# Altium integrated library TI Converter CODEC Voice-Band.IntLib: 99 symbols (part 1 of 7)
Pins are listed as number, name and electrical type; pins without a type are passive.

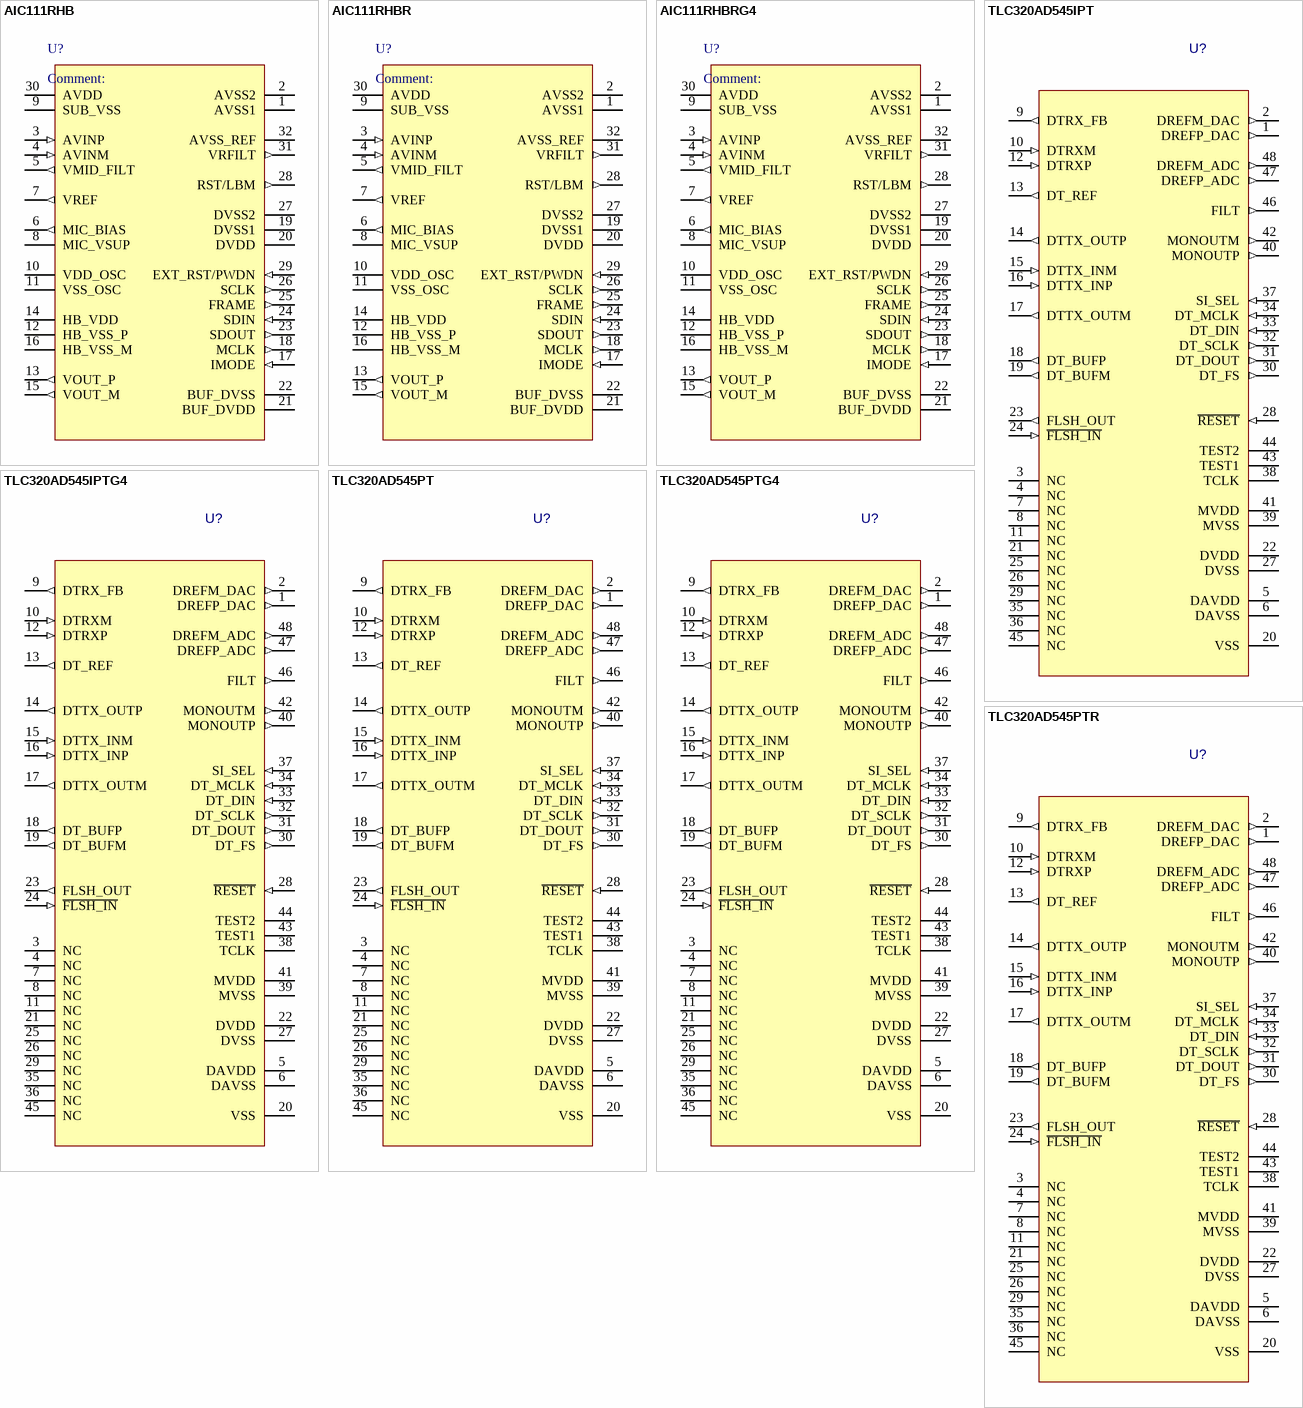
[diagram p0: symbols AIC111RHB to TLC320AD545PTR]

## AIC111RHB
designator U?
1.3V microPower DSP/uC Voice Band Audio CODEC, 32-pin QFN; Published: 16-Dec-2005; LatestRevisionDate: 13-Apr-2006; LatestRevisionNote: IPC-7351 Footprint Added.; DatasheetVersion: 18-Oct-2005; PackageVersion: 2004; PackageReference: RHB32; Publisher: Altium Limited; PackageDescription: 32-Pin Plastic Quad Flat No-Lead 0.5 mm Pitch; Code_JEDEC: MO-022; ComponentLink1Description: Manufacturer Link; ComponentLink1URL: http://www.ti.com/; ComponentLink2Description: Datasheet; ComponentLink2URL: http://focus.ti.com/lit/ds/symlink/aic111.pdf
footprint RHB32_N (QFN, 32-Leads, Body 5x5mm, Pitch 0.5mm, IPC Medium Density)
footprint RHB32_L (QFN, 32-Leads, Body 5x5mm, Pitch 0.5mm, IPC High Density)
footprint RHB32_M (QFN, 32-Leads, Body 5x5mm, Pitch 0.5mm, IPC Low Density)
pins: 1 AVSS1 (power) "Ground return for ADC analog circuits", 2 AVSS2 (power) "Ground return for PGAC and MIC power analog circuits", 3 AVINP (in) "Noninverting differential analog input coupled through an external 1uF capacitor to external microphone output", 4 AVINM (in) "Inverting differential analog signal input coupled through an external 1uF capacitor to ground", 5 VMID_FILT (out) "Midsupply ac ground reference filter pin bypassed by a 1uF capacitor connected to ground", 6 MIC_BIAS (out) "Source connection of external microphone source follower preamp. (Provides 29.1 KOhm to AVSS2)", 7 VREF (out) "Bandgap reference output bypassed by external 1uF VREF filter capacitor", 8 MIC_VSUP (power) "Supply voltage for external microphone source follower preamp bypassed with an external 0.1uF capacitor", 9 SUB_VSS (power) "Isolated substrate VSS for analog circuits", 10 VDD_OSC (power) "Power pin for internal oscillator", 11 VSS_OSC (power) "Ground return for internal oscillator", 12 HB_VSS_P (power) "Ground return for noninverting stack of H-bridge amplifier", 13 VOUT_P (out) "Noninverting H-bridge output voltage", 14 HB_VDD (power) "Power pin for H-bridge amplifier", 15 VOUT_M (out) "Inverting H-bridge output voltage", 16 HB_VSS_M (power) "Ground return for inverting stack of H-bridge amplifier", 17 IMODE (in) "Digital interface format selection pin", 18 MCLK (out) "5MHz output clock for external DSP/uC", 19 DVSS1 (power) "Ground return for digital circuits", 20 DVDD (power) "Power pin for digital circuits", 21 BUF_DVDD (power) "Power pin for interface digital I/O circuits", 22 BUF_DVSS (power) "Ground return for interface digital I/O circuits", 23 SDOUT (out) "Digital interface serial data output pin", 24 SDIN (in) "Digital interface serial data input pin", 25 FRAME (out) "Digital interface serial data framer", 26 SCLK (out) "Digital interface serial shift clock", 27 DVSS2 (power) "Ground return for digital circuits", 28 RST/LBM (out) "Provides external reset and low battery monitor", 29 EXT_RST/PWDN (in) "Powers down all analog blocks and holds digital outputs low until internal system is up", 30 AVDD (power) "VDD power pin for analog circuits", 31 VRFILT (out) "Positive ADC reference pin bypassed with 1uF capacitor to AVSS_REF", 32 AVSS_REF (power) "Ground for ADC voltage reference"

## AIC111RHBR
designator U?
1.3V microPower DSP/uC Voice Band Audio CODEC, 32-pin QFN; Published: 16-Dec-2005; LatestRevisionDate: 13-Apr-2006; LatestRevisionNote: IPC-7351 Footprint Added.; DatasheetVersion: 18-Oct-2005; PackageVersion: 2004; PackageReference: RHB32; Publisher: Altium Limited; PackageDescription: 32-Pin Plastic Quad Flat No-Lead 0.5 mm Pitch; Code_JEDEC: MO-022; ComponentLink1Description: Manufacturer Link; ComponentLink1URL: http://www.ti.com/; ComponentLink2Description: Datasheet; ComponentLink2URL: http://focus.ti.com/lit/ds/symlink/aic111.pdf
footprint RHB32_N (QFN, 32-Leads, Body 5x5mm, Pitch 0.5mm, IPC Medium Density)
footprint RHB32_L (QFN, 32-Leads, Body 5x5mm, Pitch 0.5mm, IPC High Density)
footprint RHB32_M (QFN, 32-Leads, Body 5x5mm, Pitch 0.5mm, IPC Low Density)
pins: 1 AVSS1 (power) "Ground return for ADC analog circuits", 2 AVSS2 (power) "Ground return for PGAC and MIC power analog circuits", 3 AVINP (in) "Noninverting differential analog input coupled through an external 1uF capacitor to external microphone output", 4 AVINM (in) "Inverting differential analog signal input coupled through an external 1uF capacitor to ground", 5 VMID_FILT (out) "Midsupply ac ground reference filter pin bypassed by a 1uF capacitor connected to ground", 6 MIC_BIAS (out) "Source connection of external microphone source follower preamp. (Provides 29.1 KOhm to AVSS2)", 7 VREF (out) "Bandgap reference output bypassed by external 1uF VREF filter capacitor", 8 MIC_VSUP (power) "Supply voltage for external microphone source follower preamp bypassed with an external 0.1uF capacitor", 9 SUB_VSS (power) "Isolated substrate VSS for analog circuits", 10 VDD_OSC (power) "Power pin for internal oscillator", 11 VSS_OSC (power) "Ground return for internal oscillator", 12 HB_VSS_P (power) "Ground return for noninverting stack of H-bridge amplifier", 13 VOUT_P (out) "Noninverting H-bridge output voltage", 14 HB_VDD (power) "Power pin for H-bridge amplifier", 15 VOUT_M (out) "Inverting H-bridge output voltage", 16 HB_VSS_M (power) "Ground return for inverting stack of H-bridge amplifier", 17 IMODE (in) "Digital interface format selection pin", 18 MCLK (out) "5MHz output clock for external DSP/uC", 19 DVSS1 (power) "Ground return for digital circuits", 20 DVDD (power) "Power pin for digital circuits", 21 BUF_DVDD (power) "Power pin for interface digital I/O circuits", 22 BUF_DVSS (power) "Ground return for interface digital I/O circuits", 23 SDOUT (out) "Digital interface serial data output pin", 24 SDIN (in) "Digital interface serial data input pin", 25 FRAME (out) "Digital interface serial data framer", 26 SCLK (out) "Digital interface serial shift clock", 27 DVSS2 (power) "Ground return for digital circuits", 28 RST/LBM (out) "Provides external reset and low battery monitor", 29 EXT_RST/PWDN (in) "Powers down all analog blocks and holds digital outputs low until internal system is up", 30 AVDD (power) "VDD power pin for analog circuits", 31 VRFILT (out) "Positive ADC reference pin bypassed with 1uF capacitor to AVSS_REF", 32 AVSS_REF (power) "Ground for ADC voltage reference"

## AIC111RHBRG4
designator U?
1.3V microPower DSP/uC Voice Band Audio CODEC, 32-pin QFN; Published: 16-Dec-2005; LatestRevisionDate: 13-Apr-2006; LatestRevisionNote: IPC-7351 Footprint Added.; DatasheetVersion: 18-Oct-2005; PackageVersion: 2004; PackageReference: RHB32; Publisher: Altium Limited; PackageDescription: 32-Pin Plastic Quad Flat No-Lead 0.5 mm Pitch; Code_JEDEC: MO-022; ComponentLink1Description: Manufacturer Link; ComponentLink1URL: http://www.ti.com/; ComponentLink2Description: Datasheet; ComponentLink2URL: http://focus.ti.com/lit/ds/symlink/aic111.pdf
footprint RHB32_N (QFN, 32-Leads, Body 5x5mm, Pitch 0.5mm, IPC Medium Density)
footprint RHB32_L (QFN, 32-Leads, Body 5x5mm, Pitch 0.5mm, IPC High Density)
footprint RHB32_M (QFN, 32-Leads, Body 5x5mm, Pitch 0.5mm, IPC Low Density)
pins: 1 AVSS1 (power) "Ground return for ADC analog circuits", 2 AVSS2 (power) "Ground return for PGAC and MIC power analog circuits", 3 AVINP (in) "Noninverting differential analog input coupled through an external 1uF capacitor to external microphone output", 4 AVINM (in) "Inverting differential analog signal input coupled through an external 1uF capacitor to ground", 5 VMID_FILT (out) "Midsupply ac ground reference filter pin bypassed by a 1uF capacitor connected to ground", 6 MIC_BIAS (out) "Source connection of external microphone source follower preamp. (Provides 29.1 KOhm to AVSS2)", 7 VREF (out) "Bandgap reference output bypassed by external 1uF VREF filter capacitor", 8 MIC_VSUP (power) "Supply voltage for external microphone source follower preamp bypassed with an external 0.1uF capacitor", 9 SUB_VSS (power) "Isolated substrate VSS for analog circuits", 10 VDD_OSC (power) "Power pin for internal oscillator", 11 VSS_OSC (power) "Ground return for internal oscillator", 12 HB_VSS_P (power) "Ground return for noninverting stack of H-bridge amplifier", 13 VOUT_P (out) "Noninverting H-bridge output voltage", 14 HB_VDD (power) "Power pin for H-bridge amplifier", 15 VOUT_M (out) "Inverting H-bridge output voltage", 16 HB_VSS_M (power) "Ground return for inverting stack of H-bridge amplifier", 17 IMODE (in) "Digital interface format selection pin", 18 MCLK (out) "5MHz output clock for external DSP/uC", 19 DVSS1 (power) "Ground return for digital circuits", 20 DVDD (power) "Power pin for digital circuits", 21 BUF_DVDD (power) "Power pin for interface digital I/O circuits", 22 BUF_DVSS (power) "Ground return for interface digital I/O circuits", 23 SDOUT (out) "Digital interface serial data output pin", 24 SDIN (in) "Digital interface serial data input pin", 25 FRAME (out) "Digital interface serial data framer", 26 SCLK (out) "Digital interface serial shift clock", 27 DVSS2 (power) "Ground return for digital circuits", 28 RST/LBM (out) "Provides external reset and low battery monitor", 29 EXT_RST/PWDN (in) "Powers down all analog blocks and holds digital outputs low until internal system is up", 30 AVDD (power) "VDD power pin for analog circuits", 31 VRFILT (out) "Positive ADC reference pin bypassed with 1uF capacitor to AVSS_REF", 32 AVSS_REF (power) "Ground for ADC voltage reference"

## TLC320AD545IPT
designator U?
Single Channel CODEC with Hybrid Op Amps & Speaker Driver, 48-Pin LQFP, Industrial Grade; Published: 16-Dec-2005; LatestRevisionDate: 13-Apr-2006; LatestRevisionNote: IPC-7351 Footprint Added.; DatasheetVersion: 04-Nov-2005; PackageVersion: May-1997; PackageReference: PT48; Publisher: Altium Limited; PackageDescription: 48-Pin Thin Quad Flat Pack 0.5 mm Pitch; ComponentLink1Description: Manufacturer Link; ComponentLink1URL: http://www.ti.com/; ComponentLink2Description: Datasheet; ComponentLink2URL: http://focus.ti.com/lit/ds/symlink/twl1103t-q1.pdf
footprint PT48_N (Thin QFP, 48-Leads, Body 7x7mm, Pitch 0.5mm, IPC Medium Density)
footprint PT48_L (Thin QFP, 48-Leads, Body 7x7mm, Pitch 0.5mm, IPC High Density)
footprint PT48_M (Thin QFP, 48-Leads, Body 7x7mm, Pitch 0.5mm, IPC Low Density)
pins: 1 DREFP_DAC (out) "DAC voltage reference filter output. Provides for lowpass filtering the internal bandgap reference.", 2 DREFM_DAC (out) "DAC voltage reference filter output. Provides for lowpass filtering the internal bandgap reference.", 3 NC "No connection", 4 NC "No connection", 5 DAVDD (power) "Analog power supply (5 V/3.3 V)", 6 DAVSS (power) "Analog ground", 7 NC "No connection", 8 NC "No connection", 9 DTRX_FB (out) "Receive path amplifier feedback node.", 10 DTRXM (in) "Receive path amplifier analog inverting input", 11 NC "No connection", 12 DTRXP (in) "Receive path amplifier analog noninverting input", 13 DT_REF (out) "Reference voltage for the transformer at 2.5 V for a 5-V DAVDD supply and 1.5 V for a 3.3-V DAVDD supply.", 14 DTTX_OUTP (out) "Transmit amplifier analog noninverting output", 15 DTTX_INM (in) "Transmit amplifier analog inverting input.", 16 DTTX_INP (in) "Transmit amplifier analog noninverting input. Must be shorted to DTTX_OUTM in single-ended hybrid.", 17 DTTX_OUTM (out) "Transmit amplifier analog inverting output. Must be shorted to DTTX_INP in single-ended hybrid.", 18 DT_BUFP (out) "Buffer amp analog noninverting output. Can be programmed for 0 dB, –6 dB, –12 dB and –18 dB gain or muted using the control registers.", 19 DT_BUFM (out) "Buffer amp analog inverting output. Can be programmed for 0 dB, –6 dB, –12 dB, and –18 dB gain or muted using the control registers.", 20 VSS (power) "Internal substrate connection. VSS should be tied to DAVSS .", 21 NC "No connection", 22 DVDD (power) "Digital and RESET circuit power supply (5 V/3.3 V)", 23 FLSH_OUT (out) "Power output to write/erase flash EEPROM device (such as IntelE28F400B or AMDEAm29F400).", 24 ~{FLSH_IN} (in) "External ASIC logic input. When brought low, FLSH_IN enables the FLSH_OUT output.", 25 NC "No connection", 26 NC "No connection", 27 DVSS (power) "Digital and RESET circuit ground", 28 ~{RESET} (in) "Codec device reset. Initializes all device internal registers to default values.", 29 NC "No connection", 30 DT_FS (out) "Serial port frame sync signal. Signals the beginning of transmit for ADC data and receiving of DAC data.", 31 DT_DOUT (out) "Digital data output.", 32 DT_SCLK (out) "Shift clock signal. Clocks serial data into DT_DIN and out of DT_DOUT during the frame-sync interval.", 33 DT_DIN (in) "Digital data input.", 34 DT_MCLK (in) "Master clock input. All internal clocks are derived from this clock.", 35 NC "No connection", 36 NC "No connection", 37 SI_SEL (in) "Serial interface mode select.", 38 TCLK "Test output port. For factory test only and should be either connected to ground or left unconnected.", 39 MVSS (power) "Monitor amplifier ground", 40 MONOUTP (out) "Analog output from 8 Ohm monitor speaker amplifier.", 41 MVDD (power) "Monitor amplifier supply (5 V/3.3 V)", 42 MONOUTM (out) "Analog output from 8 Ohm monitor speaker amplifier.", 43 TEST1 "Test output port. For factory test only and should be either connected to ground or left unconnected.", 44 TEST2 "Test output port. For factory test only and should be either connected to ground or left unconnected.", 45 NC "No connection", 46 FILT (out) "Bandgap filter node. Provides decoupling of the bandgap reference voltage.", 47 DREFP_ADC (out) "ADC voltage reference filter output. Provides lowpass filtering for the internal bandgap reference.", 48 DREFM_ADC (out) "ADC voltage reference filter output. Provides lowpass filtering for the internal bandgap reference."

## TLC320AD545IPTG4
designator U?
Single Channel CODEC with Hybrid Op Amps & Speaker Driver, 48-Pin LQFP, Industrial Grade; Published: 16-Dec-2005; LatestRevisionDate: 13-Apr-2006; LatestRevisionNote: IPC-7351 Footprint Added.; DatasheetVersion: 04-Nov-2005; PackageVersion: May-1997; PackageReference: PT48; Publisher: Altium Limited; PackageDescription: 48-Pin Thin Quad Flat Pack 0.5 mm Pitch; ComponentLink1Description: Manufacturer Link; ComponentLink1URL: http://www.ti.com/; ComponentLink2Description: Datasheet; ComponentLink2URL: http://focus.ti.com/lit/ds/symlink/twl1103t-q1.pdf
footprint PT48_N (Thin QFP, 48-Leads, Body 7x7mm, Pitch 0.5mm, IPC Medium Density)
footprint PT48_L (Thin QFP, 48-Leads, Body 7x7mm, Pitch 0.5mm, IPC High Density)
footprint PT48_M (Thin QFP, 48-Leads, Body 7x7mm, Pitch 0.5mm, IPC Low Density)
pins: 1 DREFP_DAC (out) "DAC voltage reference filter output. Provides for lowpass filtering the internal bandgap reference.", 2 DREFM_DAC (out) "DAC voltage reference filter output. Provides for lowpass filtering the internal bandgap reference.", 3 NC "No connection", 4 NC "No connection", 5 DAVDD (power) "Analog power supply (5 V/3.3 V)", 6 DAVSS (power) "Analog ground", 7 NC "No connection", 8 NC "No connection", 9 DTRX_FB (out) "Receive path amplifier feedback node.", 10 DTRXM (in) "Receive path amplifier analog inverting input", 11 NC "No connection", 12 DTRXP (in) "Receive path amplifier analog noninverting input", 13 DT_REF (out) "Reference voltage for the transformer at 2.5 V for a 5-V DAVDD supply and 1.5 V for a 3.3-V DAVDD supply.", 14 DTTX_OUTP (out) "Transmit amplifier analog noninverting output", 15 DTTX_INM (in) "Transmit amplifier analog inverting input.", 16 DTTX_INP (in) "Transmit amplifier analog noninverting input. Must be shorted to DTTX_OUTM in single-ended hybrid.", 17 DTTX_OUTM (out) "Transmit amplifier analog inverting output. Must be shorted to DTTX_INP in single-ended hybrid.", 18 DT_BUFP (out) "Buffer amp analog noninverting output. Can be programmed for 0 dB, –6 dB, –12 dB and –18 dB gain or muted using the control registers.", 19 DT_BUFM (out) "Buffer amp analog inverting output. Can be programmed for 0 dB, –6 dB, –12 dB, and –18 dB gain or muted using the control registers.", 20 VSS (power) "Internal substrate connection. VSS should be tied to DAVSS .", 21 NC "No connection", 22 DVDD (power) "Digital and RESET circuit power supply (5 V/3.3 V)", 23 FLSH_OUT (out) "Power output to write/erase flash EEPROM device (such as IntelE28F400B or AMDEAm29F400).", 24 ~{FLSH_IN} (in) "External ASIC logic input. When brought low, FLSH_IN enables the FLSH_OUT output.", 25 NC "No connection", 26 NC "No connection", 27 DVSS (power) "Digital and RESET circuit ground", 28 ~{RESET} (in) "Codec device reset. Initializes all device internal registers to default values.", 29 NC "No connection", 30 DT_FS (out) "Serial port frame sync signal. Signals the beginning of transmit for ADC data and receiving of DAC data.", 31 DT_DOUT (out) "Digital data output.", 32 DT_SCLK (out) "Shift clock signal. Clocks serial data into DT_DIN and out of DT_DOUT during the frame-sync interval.", 33 DT_DIN (in) "Digital data input.", 34 DT_MCLK (in) "Master clock input. All internal clocks are derived from this clock.", 35 NC "No connection", 36 NC "No connection", 37 SI_SEL (in) "Serial interface mode select.", 38 TCLK "Test output port. For factory test only and should be either connected to ground or left unconnected.", 39 MVSS (power) "Monitor amplifier ground", 40 MONOUTP (out) "Analog output from 8 Ohm monitor speaker amplifier.", 41 MVDD (power) "Monitor amplifier supply (5 V/3.3 V)", 42 MONOUTM (out) "Analog output from 8 Ohm monitor speaker amplifier.", 43 TEST1 "Test output port. For factory test only and should be either connected to ground or left unconnected.", 44 TEST2 "Test output port. For factory test only and should be either connected to ground or left unconnected.", 45 NC "No connection", 46 FILT (out) "Bandgap filter node. Provides decoupling of the bandgap reference voltage.", 47 DREFP_ADC (out) "ADC voltage reference filter output. Provides lowpass filtering for the internal bandgap reference.", 48 DREFM_ADC (out) "ADC voltage reference filter output. Provides lowpass filtering for the internal bandgap reference."

## TLC320AD545PT
designator U?
Single Channel CODEC with Hybrid Op Amps & Speaker Driver, 48-Pin LQFP, Commerical Grade; Published: 16-Dec-2005; LatestRevisionDate: 13-Apr-2006; LatestRevisionNote: IPC-7351 Footprint Added.; DatasheetVersion: 04-Nov-2005; PackageVersion: May-1997; PackageReference: PT48; Publisher: Altium Limited; PackageDescription: 48-Pin Thin Quad Flat Pack 0.5 mm Pitch; ComponentLink1Description: Manufacturer Link; ComponentLink1URL: http://www.ti.com/; ComponentLink2Description: Datasheet; ComponentLink2URL: http://focus.ti.com/lit/ds/symlink/twl1103t-q1.pdf
footprint PT48_N (Thin QFP, 48-Leads, Body 7x7mm, Pitch 0.5mm, IPC Medium Density)
footprint PT48_L (Thin QFP, 48-Leads, Body 7x7mm, Pitch 0.5mm, IPC High Density)
footprint PT48_M (Thin QFP, 48-Leads, Body 7x7mm, Pitch 0.5mm, IPC Low Density)
pins: 1 DREFP_DAC (out) "DAC voltage reference filter output. Provides for lowpass filtering the internal bandgap reference.", 2 DREFM_DAC (out) "DAC voltage reference filter output. Provides for lowpass filtering the internal bandgap reference.", 3 NC "No connection", 4 NC "No connection", 5 DAVDD (power) "Analog power supply (5 V/3.3 V)", 6 DAVSS (power) "Analog ground", 7 NC "No connection", 8 NC "No connection", 9 DTRX_FB (out) "Receive path amplifier feedback node.", 10 DTRXM (in) "Receive path amplifier analog inverting input", 11 NC "No connection", 12 DTRXP (in) "Receive path amplifier analog noninverting input", 13 DT_REF (out) "Reference voltage for the transformer at 2.5 V for a 5-V DAVDD supply and 1.5 V for a 3.3-V DAVDD supply.", 14 DTTX_OUTP (out) "Transmit amplifier analog noninverting output", 15 DTTX_INM (in) "Transmit amplifier analog inverting input.", 16 DTTX_INP (in) "Transmit amplifier analog noninverting input. Must be shorted to DTTX_OUTM in single-ended hybrid.", 17 DTTX_OUTM (out) "Transmit amplifier analog inverting output. Must be shorted to DTTX_INP in single-ended hybrid.", 18 DT_BUFP (out) "Buffer amp analog noninverting output. Can be programmed for 0 dB, –6 dB, –12 dB and –18 dB gain or muted using the control registers.", 19 DT_BUFM (out) "Buffer amp analog inverting output. Can be programmed for 0 dB, –6 dB, –12 dB, and –18 dB gain or muted using the control registers.", 20 VSS (power) "Internal substrate connection. VSS should be tied to DAVSS .", 21 NC "No connection", 22 DVDD (power) "Digital and RESET circuit power supply (5 V/3.3 V)", 23 FLSH_OUT (out) "Power output to write/erase flash EEPROM device (such as IntelE28F400B or AMDEAm29F400).", 24 ~{FLSH_IN} (in) "External ASIC logic input. When brought low, FLSH_IN enables the FLSH_OUT output.", 25 NC "No connection", 26 NC "No connection", 27 DVSS (power) "Digital and RESET circuit ground", 28 ~{RESET} (in) "Codec device reset. Initializes all device internal registers to default values.", 29 NC "No connection", 30 DT_FS (out) "Serial port frame sync signal. Signals the beginning of transmit for ADC data and receiving of DAC data.", 31 DT_DOUT (out) "Digital data output.", 32 DT_SCLK (out) "Shift clock signal. Clocks serial data into DT_DIN and out of DT_DOUT during the frame-sync interval.", 33 DT_DIN (in) "Digital data input.", 34 DT_MCLK (in) "Master clock input. All internal clocks are derived from this clock.", 35 NC "No connection", 36 NC "No connection", 37 SI_SEL (in) "Serial interface mode select.", 38 TCLK "Test output port. For factory test only and should be either connected to ground or left unconnected.", 39 MVSS (power) "Monitor amplifier ground", 40 MONOUTP (out) "Analog output from 8 Ohm monitor speaker amplifier.", 41 MVDD (power) "Monitor amplifier supply (5 V/3.3 V)", 42 MONOUTM (out) "Analog output from 8 Ohm monitor speaker amplifier.", 43 TEST1 "Test output port. For factory test only and should be either connected to ground or left unconnected.", 44 TEST2 "Test output port. For factory test only and should be either connected to ground or left unconnected.", 45 NC "No connection", 46 FILT (out) "Bandgap filter node. Provides decoupling of the bandgap reference voltage.", 47 DREFP_ADC (out) "ADC voltage reference filter output. Provides lowpass filtering for the internal bandgap reference.", 48 DREFM_ADC (out) "ADC voltage reference filter output. Provides lowpass filtering for the internal bandgap reference."

## TLC320AD545PTG4
designator U?
Single Channel CODEC with Hybrid Op Amps & Speaker Driver, 48-Pin LQFP, Commerical Grade; Published: 16-Dec-2005; LatestRevisionDate: 13-Apr-2006; LatestRevisionNote: IPC-7351 Footprint Added.; DatasheetVersion: 04-Nov-2005; PackageVersion: May-1997; PackageReference: PT48; Publisher: Altium Limited; PackageDescription: 48-Pin Thin Quad Flat Pack 0.5 mm Pitch; ComponentLink1Description: Manufacturer Link; ComponentLink1URL: http://www.ti.com/; ComponentLink2Description: Datasheet; ComponentLink2URL: http://focus.ti.com/lit/ds/symlink/twl1103t-q1.pdf
footprint PT48_N (Thin QFP, 48-Leads, Body 7x7mm, Pitch 0.5mm, IPC Medium Density)
footprint PT48_L (Thin QFP, 48-Leads, Body 7x7mm, Pitch 0.5mm, IPC High Density)
footprint PT48_M (Thin QFP, 48-Leads, Body 7x7mm, Pitch 0.5mm, IPC Low Density)
pins: 1 DREFP_DAC (out) "DAC voltage reference filter output. Provides for lowpass filtering the internal bandgap reference.", 2 DREFM_DAC (out) "DAC voltage reference filter output. Provides for lowpass filtering the internal bandgap reference.", 3 NC "No connection", 4 NC "No connection", 5 DAVDD (power) "Analog power supply (5 V/3.3 V)", 6 DAVSS (power) "Analog ground", 7 NC "No connection", 8 NC "No connection", 9 DTRX_FB (out) "Receive path amplifier feedback node.", 10 DTRXM (in) "Receive path amplifier analog inverting input", 11 NC "No connection", 12 DTRXP (in) "Receive path amplifier analog noninverting input", 13 DT_REF (out) "Reference voltage for the transformer at 2.5 V for a 5-V DAVDD supply and 1.5 V for a 3.3-V DAVDD supply.", 14 DTTX_OUTP (out) "Transmit amplifier analog noninverting output", 15 DTTX_INM (in) "Transmit amplifier analog inverting input.", 16 DTTX_INP (in) "Transmit amplifier analog noninverting input. Must be shorted to DTTX_OUTM in single-ended hybrid.", 17 DTTX_OUTM (out) "Transmit amplifier analog inverting output. Must be shorted to DTTX_INP in single-ended hybrid.", 18 DT_BUFP (out) "Buffer amp analog noninverting output. Can be programmed for 0 dB, –6 dB, –12 dB and –18 dB gain or muted using the control registers.", 19 DT_BUFM (out) "Buffer amp analog inverting output. Can be programmed for 0 dB, –6 dB, –12 dB, and –18 dB gain or muted using the control registers.", 20 VSS (power) "Internal substrate connection. VSS should be tied to DAVSS .", 21 NC "No connection", 22 DVDD (power) "Digital and RESET circuit power supply (5 V/3.3 V)", 23 FLSH_OUT (out) "Power output to write/erase flash EEPROM device (such as IntelE28F400B or AMDEAm29F400).", 24 ~{FLSH_IN} (in) "External ASIC logic input. When brought low, FLSH_IN enables the FLSH_OUT output.", 25 NC "No connection", 26 NC "No connection", 27 DVSS (power) "Digital and RESET circuit ground", 28 ~{RESET} (in) "Codec device reset. Initializes all device internal registers to default values.", 29 NC "No connection", 30 DT_FS (out) "Serial port frame sync signal. Signals the beginning of transmit for ADC data and receiving of DAC data.", 31 DT_DOUT (out) "Digital data output.", 32 DT_SCLK (out) "Shift clock signal. Clocks serial data into DT_DIN and out of DT_DOUT during the frame-sync interval.", 33 DT_DIN (in) "Digital data input.", 34 DT_MCLK (in) "Master clock input. All internal clocks are derived from this clock.", 35 NC "No connection", 36 NC "No connection", 37 SI_SEL (in) "Serial interface mode select.", 38 TCLK "Test output port. For factory test only and should be either connected to ground or left unconnected.", 39 MVSS (power) "Monitor amplifier ground", 40 MONOUTP (out) "Analog output from 8 Ohm monitor speaker amplifier.", 41 MVDD (power) "Monitor amplifier supply (5 V/3.3 V)", 42 MONOUTM (out) "Analog output from 8 Ohm monitor speaker amplifier.", 43 TEST1 "Test output port. For factory test only and should be either connected to ground or left unconnected.", 44 TEST2 "Test output port. For factory test only and should be either connected to ground or left unconnected.", 45 NC "No connection", 46 FILT (out) "Bandgap filter node. Provides decoupling of the bandgap reference voltage.", 47 DREFP_ADC (out) "ADC voltage reference filter output. Provides lowpass filtering for the internal bandgap reference.", 48 DREFM_ADC (out) "ADC voltage reference filter output. Provides lowpass filtering for the internal bandgap reference."

## TLC320AD545PTR
designator U?
Single Channel CODEC with Hybrid Op Amps & Speaker Driver, 48-Pin LQFP, Commerical Grade; Published: 16-Dec-2005; LatestRevisionDate: 13-Apr-2006; LatestRevisionNote: IPC-7351 Footprint Added.; DatasheetVersion: 04-Nov-2005; PackageVersion: May-1997; PackageReference: PT48; Publisher: Altium Limited; PackageDescription: 48-Pin Thin Quad Flat Pack 0.5 mm Pitch; ComponentLink1Description: Manufacturer Link; ComponentLink1URL: http://www.ti.com/; ComponentLink2Description: Datasheet; ComponentLink2URL: http://focus.ti.com/lit/ds/symlink/twl1103t-q1.pdf
footprint PT48_N (Thin QFP, 48-Leads, Body 7x7mm, Pitch 0.5mm, IPC Medium Density)
footprint PT48_L (Thin QFP, 48-Leads, Body 7x7mm, Pitch 0.5mm, IPC High Density)
footprint PT48_M (Thin QFP, 48-Leads, Body 7x7mm, Pitch 0.5mm, IPC Low Density)
pins: 1 DREFP_DAC (out) "DAC voltage reference filter output. Provides for lowpass filtering the internal bandgap reference.", 2 DREFM_DAC (out) "DAC voltage reference filter output. Provides for lowpass filtering the internal bandgap reference.", 3 NC "No connection", 4 NC "No connection", 5 DAVDD (power) "Analog power supply (5 V/3.3 V)", 6 DAVSS (power) "Analog ground", 7 NC "No connection", 8 NC "No connection", 9 DTRX_FB (out) "Receive path amplifier feedback node.", 10 DTRXM (in) "Receive path amplifier analog inverting input", 11 NC "No connection", 12 DTRXP (in) "Receive path amplifier analog noninverting input", 13 DT_REF (out) "Reference voltage for the transformer at 2.5 V for a 5-V DAVDD supply and 1.5 V for a 3.3-V DAVDD supply.", 14 DTTX_OUTP (out) "Transmit amplifier analog noninverting output", 15 DTTX_INM (in) "Transmit amplifier analog inverting input.", 16 DTTX_INP (in) "Transmit amplifier analog noninverting input. Must be shorted to DTTX_OUTM in single-ended hybrid.", 17 DTTX_OUTM (out) "Transmit amplifier analog inverting output. Must be shorted to DTTX_INP in single-ended hybrid.", 18 DT_BUFP (out) "Buffer amp analog noninverting output. Can be programmed for 0 dB, –6 dB, –12 dB and –18 dB gain or muted using the control registers.", 19 DT_BUFM (out) "Buffer amp analog inverting output. Can be programmed for 0 dB, –6 dB, –12 dB, and –18 dB gain or muted using the control registers.", 20 VSS (power) "Internal substrate connection. VSS should be tied to DAVSS .", 21 NC "No connection", 22 DVDD (power) "Digital and RESET circuit power supply (5 V/3.3 V)", 23 FLSH_OUT (out) "Power output to write/erase flash EEPROM device (such as IntelE28F400B or AMDEAm29F400).", 24 ~{FLSH_IN} (in) "External ASIC logic input. When brought low, FLSH_IN enables the FLSH_OUT output.", 25 NC "No connection", 26 NC "No connection", 27 DVSS (power) "Digital and RESET circuit ground", 28 ~{RESET} (in) "Codec device reset. Initializes all device internal registers to default values.", 29 NC "No connection", 30 DT_FS (out) "Serial port frame sync signal. Signals the beginning of transmit for ADC data and receiving of DAC data.", 31 DT_DOUT (out) "Digital data output.", 32 DT_SCLK (out) "Shift clock signal. Clocks serial data into DT_DIN and out of DT_DOUT during the frame-sync interval.", 33 DT_DIN (in) "Digital data input.", 34 DT_MCLK (in) "Master clock input. All internal clocks are derived from this clock.", 35 NC "No connection", 36 NC "No connection", 37 SI_SEL (in) "Serial interface mode select.", 38 TCLK "Test output port. For factory test only and should be either connected to ground or left unconnected.", 39 MVSS (power) "Monitor amplifier ground", 40 MONOUTP (out) "Analog output from 8 Ohm monitor speaker amplifier.", 41 MVDD (power) "Monitor amplifier supply (5 V/3.3 V)", 42 MONOUTM (out) "Analog output from 8 Ohm monitor speaker amplifier.", 43 TEST1 "Test output port. For factory test only and should be either connected to ground or left unconnected.", 44 TEST2 "Test output port. For factory test only and should be either connected to ground or left unconnected.", 45 NC "No connection", 46 FILT (out) "Bandgap filter node. Provides decoupling of the bandgap reference voltage.", 47 DREFP_ADC (out) "ADC voltage reference filter output. Provides lowpass filtering for the internal bandgap reference.", 48 DREFM_ADC (out) "ADC voltage reference filter output. Provides lowpass filtering for the internal bandgap reference."

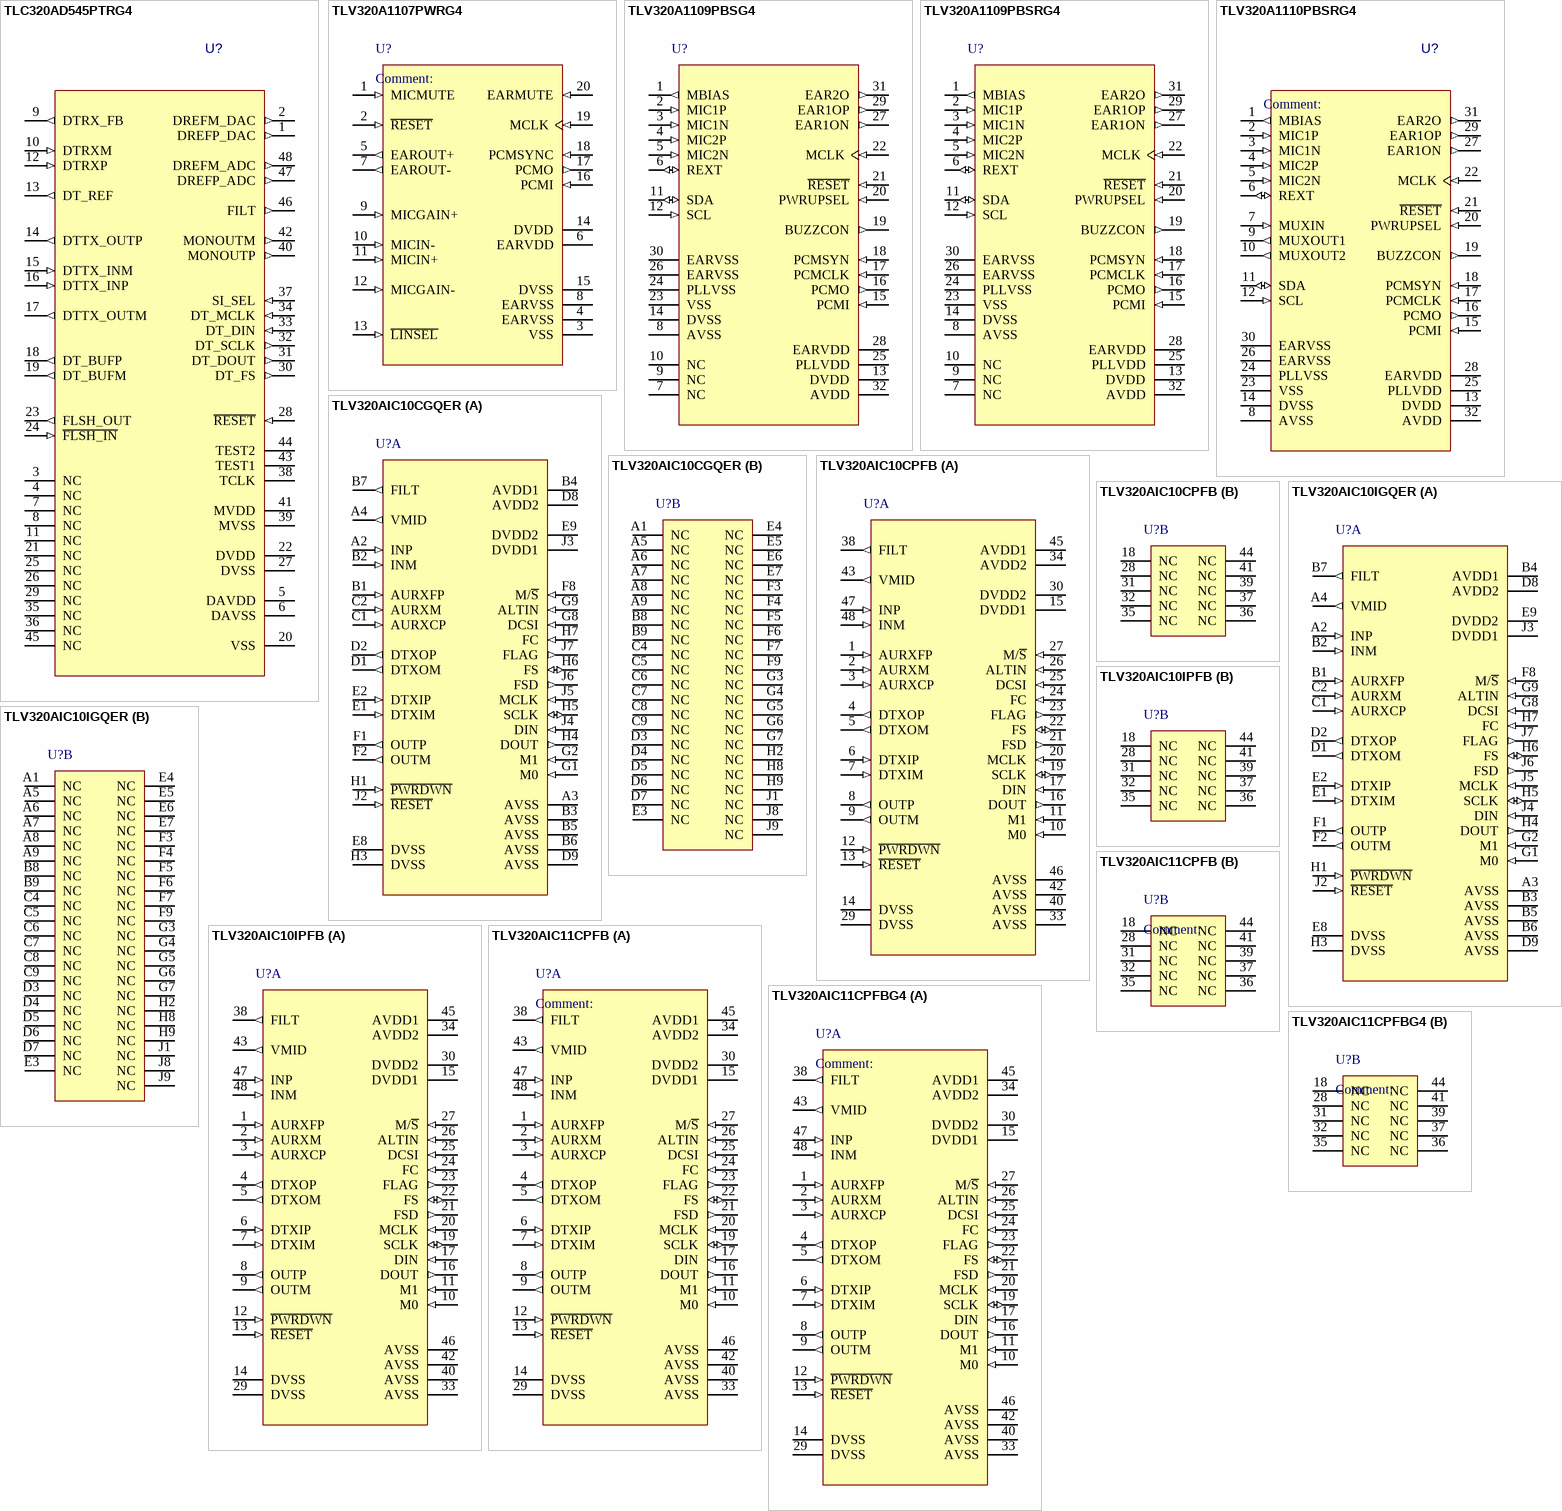
[diagram p1: symbols TLC320AD545PTRG4 to TLV320AIC11CPFBG4]

## TLC320AD545PTRG4
designator U?
Single Channel CODEC with Hybrid Op Amps & Speaker Driver, 48-Pin LQFP, Commerical Grade; Published: 16-Dec-2005; LatestRevisionDate: 13-Apr-2006; LatestRevisionNote: IPC-7351 Footprint Added.; DatasheetVersion: 04-Nov-2005; PackageVersion: May-1997; PackageReference: PT48; Publisher: Altium Limited; PackageDescription: 48-Pin Thin Quad Flat Pack 0.5 mm Pitch; ComponentLink1Description: Manufacturer Link; ComponentLink1URL: http://www.ti.com/; ComponentLink2Description: Datasheet; ComponentLink2URL: http://focus.ti.com/lit/ds/symlink/twl1103t-q1.pdf
footprint PT48_N (Thin QFP, 48-Leads, Body 7x7mm, Pitch 0.5mm, IPC Medium Density)
footprint PT48_L (Thin QFP, 48-Leads, Body 7x7mm, Pitch 0.5mm, IPC High Density)
footprint PT48_M (Thin QFP, 48-Leads, Body 7x7mm, Pitch 0.5mm, IPC Low Density)
pins: 1 DREFP_DAC (out) "DAC voltage reference filter output. Provides for lowpass filtering the internal bandgap reference.", 2 DREFM_DAC (out) "DAC voltage reference filter output. Provides for lowpass filtering the internal bandgap reference.", 3 NC "No connection", 4 NC "No connection", 5 DAVDD (power) "Analog power supply (5 V/3.3 V)", 6 DAVSS (power) "Analog ground", 7 NC "No connection", 8 NC "No connection", 9 DTRX_FB (out) "Receive path amplifier feedback node.", 10 DTRXM (in) "Receive path amplifier analog inverting input", 11 NC "No connection", 12 DTRXP (in) "Receive path amplifier analog noninverting input", 13 DT_REF (out) "Reference voltage for the transformer at 2.5 V for a 5-V DAVDD supply and 1.5 V for a 3.3-V DAVDD supply.", 14 DTTX_OUTP (out) "Transmit amplifier analog noninverting output", 15 DTTX_INM (in) "Transmit amplifier analog inverting input.", 16 DTTX_INP (in) "Transmit amplifier analog noninverting input. Must be shorted to DTTX_OUTM in single-ended hybrid.", 17 DTTX_OUTM (out) "Transmit amplifier analog inverting output. Must be shorted to DTTX_INP in single-ended hybrid.", 18 DT_BUFP (out) "Buffer amp analog noninverting output. Can be programmed for 0 dB, –6 dB, –12 dB and –18 dB gain or muted using the control registers.", 19 DT_BUFM (out) "Buffer amp analog inverting output. Can be programmed for 0 dB, –6 dB, –12 dB, and –18 dB gain or muted using the control registers.", 20 VSS (power) "Internal substrate connection. VSS should be tied to DAVSS .", 21 NC "No connection", 22 DVDD (power) "Digital and RESET circuit power supply (5 V/3.3 V)", 23 FLSH_OUT (out) "Power output to write/erase flash EEPROM device (such as IntelE28F400B or AMDEAm29F400).", 24 ~{FLSH_IN} (in) "External ASIC logic input. When brought low, FLSH_IN enables the FLSH_OUT output.", 25 NC "No connection", 26 NC "No connection", 27 DVSS (power) "Digital and RESET circuit ground", 28 ~{RESET} (in) "Codec device reset. Initializes all device internal registers to default values.", 29 NC "No connection", 30 DT_FS (out) "Serial port frame sync signal. Signals the beginning of transmit for ADC data and receiving of DAC data.", 31 DT_DOUT (out) "Digital data output.", 32 DT_SCLK (out) "Shift clock signal. Clocks serial data into DT_DIN and out of DT_DOUT during the frame-sync interval.", 33 DT_DIN (in) "Digital data input.", 34 DT_MCLK (in) "Master clock input. All internal clocks are derived from this clock.", 35 NC "No connection", 36 NC "No connection", 37 SI_SEL (in) "Serial interface mode select.", 38 TCLK "Test output port. For factory test only and should be either connected to ground or left unconnected.", 39 MVSS (power) "Monitor amplifier ground", 40 MONOUTP (out) "Analog output from 8 Ohm monitor speaker amplifier.", 41 MVDD (power) "Monitor amplifier supply (5 V/3.3 V)", 42 MONOUTM (out) "Analog output from 8 Ohm monitor speaker amplifier.", 43 TEST1 "Test output port. For factory test only and should be either connected to ground or left unconnected.", 44 TEST2 "Test output port. For factory test only and should be either connected to ground or left unconnected.", 45 NC "No connection", 46 FILT (out) "Bandgap filter node. Provides decoupling of the bandgap reference voltage.", 47 DREFP_ADC (out) "ADC voltage reference filter output. Provides lowpass filtering for the internal bandgap reference.", 48 DREFM_ADC (out) "ADC voltage reference filter output. Provides lowpass filtering for the internal bandgap reference."

## TLV320A1107PWRG4
designator U?
PCM CODEC With Microphone Amps & Speaker Driver, 20-Pin TSSOP; Published: 16-Dec-2005; DatasheetVersion: 13-Sep-2005; PackageVersion: Feb-1999; PackageReference: PW020; Publisher: Altium Limited; PackageDescription: Shrink Small Outline; 20 Leads; Body Width 4.4 mm; Pitch 0.65 mm; ComponentLink1Description: Manufacturer Link; ComponentLink1URL: http://www.ti.com/; ComponentLink2Description: Datasheet; ComponentLink2URL: http://focus.ti.com/lit/ds/symlink/tlv320aic1107.pdf
footprint PW020 (Shrink Small Outline; 20 Leads; Body Width 4.4 mm; Pitch 0.65 mm)
pins: 1 MICMUTE (in) "Microphone mute", 2 ~{RESET} (in) "Active-low reset", 3 VSS (power) "Ground return for band-gap internal reference", 4 EARVSS (power) "Analog ground for EAROUT+", 5 EAROUT+ (out) "Earphone amplifier positive output", 6 EARVDD (power) "Analog positive power supply for the earphone amplifiers", 7 EAROUT- (out) "Earphone amplifier negative output", 8 EARVSS (power) "Analog ground for EAROUT-", 9 MICGAIN+ (in) "Microphone gain positive feedback", 10 MICIN- (in) "Microphone negative input (-)", 11 MICIN+ (in) "Microphone positive input (+)", 12 MICGAIN- (in) "Microphone gain negative feedback", 13 ~{LINSEL} (in) "Companding enable", 14 DVDD (power) "Digital positive power supply", 15 DVSS (power) "Digital negative power supply", 16 PCMI (in) "Receive PCM input", 17 PCMO (out) "Transmit PCM output", 18 PCMSYNC (in) "PCM frame synchronization", 19 MCLK (in) "Master system clock input (2.048 MHz) (digital)", 20 EARMUTE (in) "Earphone mute"

## TLV320A1109PBSG4
designator U?
Programmable PCM CODEC With Microphone Amps & Speaker Driver, 32-Pin TQFP; Published: 16-Dec-2005; LatestRevisionDate: 13-Apr-2006; LatestRevisionNote: IPC-7351 Footprint Added.; DatasheetVersion: 13-Sep-2005; PackageVersion: Nov-1995; PackageReference: PBS32; Publisher: Altium Limited; PackageDescription: 32-Pin Thin Plastic Quad Flat Pack 0.5 mm Pitch; Code_JEDEC: MS-026-AAA; ComponentLink1Description: Manufacturer Link; ComponentLink1URL: http://www.ti.com/; ComponentLink2Description: Datasheet; ComponentLink2URL: http://focus.ti.com/lit/ds/symlink/tlv320aic1109.pdf
footprint PBS32_N (Thin QFP, 32-Leads, Body 5x5mm, Pitch 0.5mm, IPC Medium Density)
footprint PBS32_L (Thin QFP, 32-Leads, Body 5x5mm, Pitch 0.5mm, IPC High Density)
footprint PBS32_M (Thin QFP, 32-Leads, Body 5x5mm, Pitch 0.5mm, IPC Low Density)
pins: 1 MBIAS (out) "Microphone bias supply output, no decoupling capacitors", 2 MIC1P (in) "MIC1 input (+)", 3 MIC1N (in) "MIC1 input (-)", 4 MIC2P (in) "MIC2 input (+)", 5 MIC2N (in) "MIC2 input (-)", 6 REXT (io) "Internal reference current setting terminal", 7 NC "No connection", 8 AVSS (power) "Analog negative power supply", 9 NC "No connection", 10 NC "No connection", 11 SDA (io) "I2C-bus serial address/data input/output", 12 SCL (in) "I2C-bus serial clock", 13 DVDD (power) "Digital positive power supply", 14 DVSS (power) "Digital negative power supply", 15 PCMI (in) "Receive PCM input", 16 PCMO (out) "Transmit PCM output", 17 PCMCLK (in) "PCM data clock", 18 PCMSYN (in) "PCM frame synchronization", 19 BUZZCON (out) "Buzzer output, a pulse-density modulated signal to apply to external buzzer driver", 20 PWRUPSEL (in) "Selects the power-up default mode", 21 ~{RESET} (in) "Active low reset", 22 MCLK (in) "Master system clock input (2.048 MHz) (digital)", 23 VSS (power) "Ground return for bandgap internal reference", 24 PLLVSS (power) "PLL negative power supply", 25 PLLVDD (power) "PLL digital power supply", 26 EARVSS (power) "Analog negative power supply for the earphone amplifiers", 27 EAR1ON (out) "Earphone 1 amplifier output (-)", 28 EARVDD (power) "Analog positive power supply for the earphone amplifiers", 29 EAR1OP (out) "Earphone 1 amplifier output (+)", 30 EARVSS (power) "Analog negative power supply for the earphone amplifiers", 31 EAR2O (out) "Earphone 2 amplifier output", 32 AVDD (power) "Analog positive power supply"

## TLV320A1109PBSRG4
designator U?
Programmable PCM CODEC With Microphone Amps & Speaker Driver, 32-Pin TQFP; Published: 16-Dec-2005; LatestRevisionDate: 13-Apr-2006; LatestRevisionNote: IPC-7351 Footprint Added.; DatasheetVersion: 13-Sep-2005; PackageVersion: Nov-1995; PackageReference: PBS32; Publisher: Altium Limited; PackageDescription: 32-Pin Thin Plastic Quad Flat Pack 0.5 mm Pitch; Code_JEDEC: MS-026-AAA; ComponentLink1Description: Manufacturer Link; ComponentLink1URL: http://www.ti.com/; ComponentLink2Description: Datasheet; ComponentLink2URL: http://focus.ti.com/lit/ds/symlink/tlv320aic1109.pdf
footprint PBS32_N (Thin QFP, 32-Leads, Body 5x5mm, Pitch 0.5mm, IPC Medium Density)
footprint PBS32_L (Thin QFP, 32-Leads, Body 5x5mm, Pitch 0.5mm, IPC High Density)
footprint PBS32_M (Thin QFP, 32-Leads, Body 5x5mm, Pitch 0.5mm, IPC Low Density)
pins: 1 MBIAS (out) "Microphone bias supply output, no decoupling capacitors", 2 MIC1P (in) "MIC1 input (+)", 3 MIC1N (in) "MIC1 input (-)", 4 MIC2P (in) "MIC2 input (+)", 5 MIC2N (in) "MIC2 input (-)", 6 REXT (io) "Internal reference current setting terminal", 7 NC "No connection", 8 AVSS (power) "Analog negative power supply", 9 NC "No connection", 10 NC "No connection", 11 SDA (io) "I2C-bus serial address/data input/output", 12 SCL (in) "I2C-bus serial clock", 13 DVDD (power) "Digital positive power supply", 14 DVSS (power) "Digital negative power supply", 15 PCMI (in) "Receive PCM input", 16 PCMO (out) "Transmit PCM output", 17 PCMCLK (in) "PCM data clock", 18 PCMSYN (in) "PCM frame synchronization", 19 BUZZCON (out) "Buzzer output, a pulse-density modulated signal to apply to external buzzer driver", 20 PWRUPSEL (in) "Selects the power-up default mode", 21 ~{RESET} (in) "Active low reset", 22 MCLK (in) "Master system clock input (2.048 MHz) (digital)", 23 VSS (power) "Ground return for bandgap internal reference", 24 PLLVSS (power) "PLL negative power supply", 25 PLLVDD (power) "PLL digital power supply", 26 EARVSS (power) "Analog negative power supply for the earphone amplifiers", 27 EAR1ON (out) "Earphone 1 amplifier output (-)", 28 EARVDD (power) "Analog positive power supply for the earphone amplifiers", 29 EAR1OP (out) "Earphone 1 amplifier output (+)", 30 EARVSS (power) "Analog negative power supply for the earphone amplifiers", 31 EAR2O (out) "Earphone 2 amplifier output", 32 AVDD (power) "Analog positive power supply"

## TLV320A1110PBSRG4
designator U?
Programmable PCM CODEC With Microphone Amps & Speaker Driver, 32-Pin TQFP; Published: 16-Dec-2005; LatestRevisionDate: 13-Apr-2006; LatestRevisionNote: IPC-7351 Footprint Added.; DatasheetVersion: 16-May-2005; PackageVersion: Nov-1995; PackageReference: PBS32; Publisher: Altium Limited; PackageDescription: 32-Pin Thin Plastic Quad Flat Pack 0.5 mm Pitch; Code_JEDEC: MS-026-AAA; ComponentLink1Description: Manufacturer Link; ComponentLink1URL: http://www.ti.com/; ComponentLink2Description: Datasheet; ComponentLink2URL: http://focus.ti.com/lit/ds/symlink/tlv320aic1110.pdf
footprint PBS32_N (Thin QFP, 32-Leads, Body 5x5mm, Pitch 0.5mm, IPC Medium Density)
footprint PBS32_L (Thin QFP, 32-Leads, Body 5x5mm, Pitch 0.5mm, IPC High Density)
footprint PBS32_M (Thin QFP, 32-Leads, Body 5x5mm, Pitch 0.5mm, IPC Low Density)
pins: 1 MBIAS (out) "Microphone bias supply output, no decoupling capacitors", 2 MIC1P (in) "MIC1 input (+)", 3 MIC1N (in) "MIC1 input (-)", 4 MIC2P (in) "MIC2 input (+)", 5 MIC2N (in) "MIC2 input (-)", 6 REXT (io) "Internal reference current setting terminal (use precision 100-k?resistor and no filtering capacitors)", 7 MUXIN (in) "Analog MUX input", 8 AVSS (power) "Analog negative power supply (use for ground connection)", 9 MUXOUT1 (out) "Analog MUX output", 10 MUXOUT2 (out) "Analog MUX output", 11 SDA (io) "I2C-bus serial address/data input/output.", 12 SCL (in) "I2C-bus serial clock. This input is used to synchronize the data transfer from and to the PCM codec.", 13 DVDD (power) "Digital positive power supply", 14 DVSS (power) "Digital negative power supply", 15 PCMI (in) "Receive PCM input", 16 PCMO (out) "Transmit PCM output", 17 PCMCLK (in) "PCM data clock", 18 PCMSYN (in) "PCM frame sync", 19 BUZZCON (out) "Buzzer output, a pulse-density modulated signal to apply to external buzzer driver", 20 PWRUPSEL (in) "Selects the power-up default mode", 21 ~{RESET} (in) "Active low reset", 22 MCLK (in) "Master system clock input (2.048 MHz, digital)", 23 VSS (power) "Ground return for bandgap internal reference (use for ground connection)", 24 PLLVSS (power) "PLL negative power supply", 25 PLLVDD (power) "PLL digital power supply", 26 EARVSS (power) "Analog negative power supply for the earphone amplifiers", 27 EAR1ON (out) "Earphone 1 amplifier output (-)", 28 EARVDD (power) "Analog positive power supply for the earphone amplifiers", 29 EAR1OP (out) "Earphone 1 amplifier output (+)", 30 EARVSS (power) "Analog negative power supply for the earphone amplifiers", 31 EAR2O (out) "Earphone 2 amplifier output", 32 AVDD (power) "Analog positive power supply"

## TLV320AIC10CGQER
designator U?
General Purpose 3V to 5.5V 16-Bit 22-KSPS DSP CODEC, 80-pin MicroStar Junior VFBGA, Commerical Grade; Published: 16-Dec-2005; LatestRevisionDate: 13-Apr-2006; LatestRevisionNote: IPC-7351 Footprint Added.; DatasheetVersion: 26-Jul-2005; PackageVersion: Oct-2005; PackageReference: GQE80; Publisher: Altium Limited; PackageDescription: 80-Ball Plastic Ball Grid Array 0.5 mm Pitch; Code_JEDEC: MO-225; ComponentLink1Description: Manufacturer Link; ComponentLink1URL: http://www.ti.com/; ComponentLink2Description: Datasheet; ComponentLink2URL: http://focus.ti.com/lit/ds/symlink/tlv320aic10.pdf
footprint GQE80 (BGA, 80-Leads, Body 5x5mm, Pitch 0.5mm)
part A pins: A2 INP (in) "Noninverting input to analog modulator.", A3 AVSS (power) "Analog ground", A4 VMID (out) "Reference voltage output at AVDD/2", B1 AURXFP (in) "Receiver-path amplifier A1 feedback, or noninverting input to auxiliary analog input. Can also be used for general-purpose amplification.", B2 INM (in) "Inverting input to analog modulator.", B3 AVSS (power) "Analog ground", B4 AVDD1 (power) "Analog power supply", B5 AVSS (power) "Analog ground", B6 AVSS (power) "Analog ground", B7 FILT (out) "Bandgap filter. FILT is provided for decoupling of the bandgap reference, and provides 2.5 V.", C1 AURXCP (in) "Receiver-path/GP amplifier noninverting input. It needs to be connected to AVSS if not used.", C2 AURXM (in) "Receiver-path amplifier A1 inverting input, or inverting input to auxiliary analog input. Can also be used for general-purpose amplification.", D1 DTXOM (out) "Transmitter path amplifier A4 feedback for negative output. Can also be used for general-purpose amplification.", D2 DTXOP (out) "Transmitter path amplifier A3 feedback for positive output. Can also be used for negative output.", D8 AVDD2 (power) "Analog power supply", D9 AVSS (power) "Analog ground", E1 DTXIM (in) "Transmitter-path amplifier A3 analog inverting input. Can also be used for general-purpose amplification.", E2 DTXIP (in) "Transmitter-path amplifier A4 analog noninverting input. Can also be used for general-purpose amplification.", E8 DVSS (power) "Digital ground", E9 DVDD2 (power) "Digital power supply", F1 OUTP (out) "DACs noninverting output. OUTP can also be used alone for single-ended operation.", F2 OUTM (out) "DACs inverting output. OUTM is functionally identical with and complementary to OUTP.", F8 M/~{S} (in) "Master/slave select input. When M/S is high, the device is the master, and when is low, it is a slave.", G1 M0 (in) "Combine with M1 to select serial interface mode (frame-sync mode)", G2 M1 (in) "Combine with M0 to select serial interface mode (frame-sync mode)", G8 DCSI (in) "Direct configuration serial input for directly programming of internal control registers. Tie this pin to high if not used.", G9 ALTIN (in) "Serial input in the event monitormode. Tie this pin to low if not used.", H1 ~{PWRDWN} (in) "Power down.", H3 DVSS (power) "Digital ground", H4 DOUT (out) "Data output. DOUT transmits the ADC output bits and registers data.", H5 SCLK (io) "Shift clock. SCLK signal clocks serial data into DIN and out of DOUT during the frame-sync interval.", H6 FS (io) "Frame sync.", H7 FC (in) "Hardware request for secondary communication. Tie this pin to low if not used.", J2 ~{RESET} (in) "The reset function is provided to initialize all the internal registers to their default values.", J3 DVDD1 (power) "Digital power supply", J4 DIN (in) "Data input. DIN receives the DAC input data and register data from the external digital signal processor (DSP).", J5 MCLK (in) "Master clock. MCLK derives the internal clocks of the sigma-delta analog interface circuit.", J6 FSD (out) "Frame-sync delayed output.", J7 FLAG (out) "Controlled by bit D4 of control register 3."
part B pins: A1 NC "No connection", A5 NC "No connection", A6 NC "No connection", A7 NC "No connection", A8 NC "No connection", A9 NC "No connection", B8 NC "No connection", B9 NC "No connection", C4 NC "No connection", C5 NC "No connection", C6 NC "No connection", C7 NC "No connection", C8 NC "No connection", C9 NC "No connection", D3 NC "No connection", D4 NC "No connection", D5 NC "No connection", D6 NC "No connection", D7 NC "No connection", E3 NC "No connection", E4 NC "No connection", E5 NC "No connection", E6 NC "No connection", E7 NC "No connection", F3 NC "No connection", F4 NC "No connection", F5 NC "No connection", F6 NC "No connection", F7 NC "No connection", F9 NC "No connection", G3 NC "No connection", G4 NC "No connection", G5 NC "No connection", G6 NC "No connection", G7 NC "No connection", H2 NC "No connection", H8 NC "No connection", H9 NC "No connection", J1 NC "No connection", J8 NC "No connection", J9 NC "No connection"